# EAGLE library part СНП351-95РПр31-О-Б (library connectors)
РЮМК.430420.015 ТУ Соединитель (розетка) для печатного монтажа методом «пресс-фит» СНП351 предназначен для работы в электрических цепях постоянного, переменного и импульсного токов в радиоэлектронной аппаратуре специального и общепромышленного назначения. Технические условия ОТК: РЮМК.430420.046 ТУ Технические условия ВП: РЮМК.430420.015 ТУ Производитель: АО «Карачевский завод "Электродеталь" 242500 Брянская область, г. Карачев, ул. Горького, 1
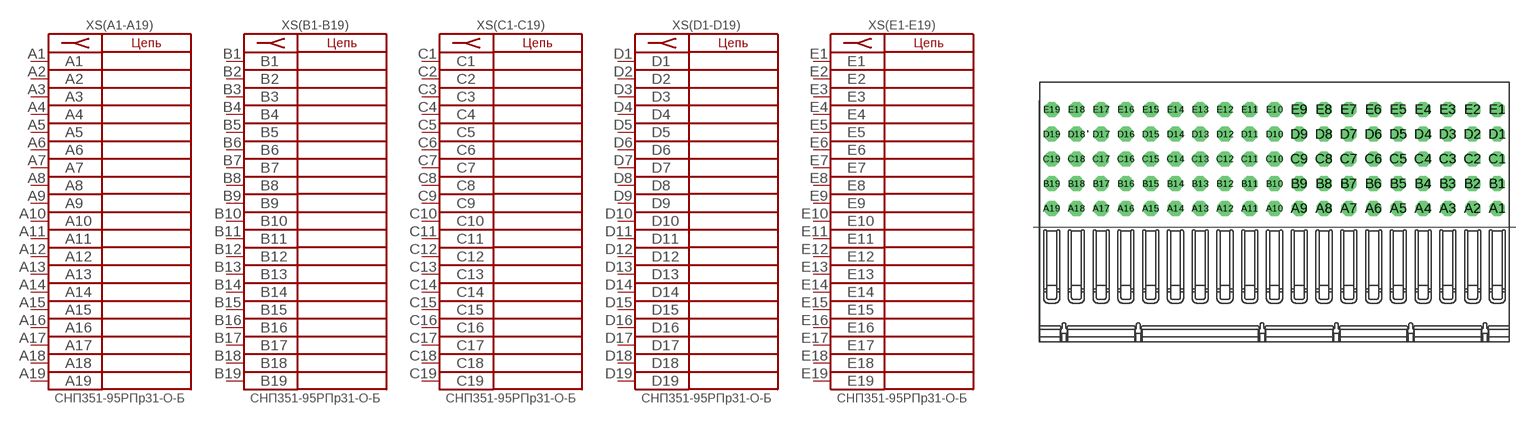
[diagram p9: symbol with the pads of СНП351-95РПр31-О-Б; footprint СНП351-95РПр31-О-Б]

Designator prefix XS; gates (A1-A19)=CONNECTOR_CPCI_A1_19(розетка) (B1-B19)=CONNECTOR_CPCI_B1_19(розетка) (C1-C19)=CONNECTOR_CPCI_C1_19(розетка) (D1-D19)=CONNECTOR_CPCI_D1_19(розетка) (E1-E19)=CONNECTOR_CPCI_E1_19(розетка)

## СНП351-95РПр31-О-Б  [СНП351-95РПр31-О-Б]
A1  (A1-A19):A1  pas
A2  (A1-A19):A2  pas
A3  (A1-A19):A3  pas
A4  (A1-A19):A4  pas
A5  (A1-A19):A5  pas
A6  (A1-A19):A6  pas
A7  (A1-A19):A7  pas
A8  (A1-A19):A8  pas
A9  (A1-A19):A9  pas
A10  (A1-A19):A10  pas
A11  (A1-A19):A11  pas
A12  (A1-A19):A12  pas
A13  (A1-A19):A13  pas
A14  (A1-A19):A14  pas
A15  (A1-A19):A15  pas
A16  (A1-A19):A16  pas
A17  (A1-A19):A17  pas
A18  (A1-A19):A18  pas
A19  (A1-A19):A19  pas
B1  (B1-B19):B1  pas
B2  (B1-B19):B2  pas
B3  (B1-B19):B3  pas
B4  (B1-B19):B4  pas
B5  (B1-B19):B5  pas
B6  (B1-B19):B6  pas
B7  (B1-B19):B7  pas
B8  (B1-B19):B8  pas
B9  (B1-B19):B9  pas
B10  (B1-B19):B10  pas
B11  (B1-B19):B11  pas
B12  (B1-B19):B12  pas
B13  (B1-B19):B13  pas
B14  (B1-B19):B14  pas
B15  (B1-B19):B15  pas
B16  (B1-B19):B16  pas
B17  (B1-B19):B17  pas
B18  (B1-B19):B18  pas
B19  (B1-B19):B19  pas
C1  (C1-C19):C1  pas
C2  (C1-C19):C2  pas
C3  (C1-C19):C3  pas
C4  (C1-C19):C4  pas
C5  (C1-C19):C5  pas
C6  (C1-C19):C6  pas
C7  (C1-C19):C7  pas
C8  (C1-C19):C8  pas
C9  (C1-C19):C9  pas
C10  (C1-C19):C10  pas
C11  (C1-C19):C11  pas
C12  (C1-C19):C12  pas
C13  (C1-C19):C13  pas
C14  (C1-C19):C14  pas
C15  (C1-C19):C15  pas
C16  (C1-C19):C16  pas
C17  (C1-C19):C17  pas
C18  (C1-C19):C18  pas
C19  (C1-C19):C19  pas
D1  (D1-D19):D1  pas
D2  (D1-D19):D2  pas
D3  (D1-D19):D3  pas
D4  (D1-D19):D4  pas
D5  (D1-D19):D5  pas
D6  (D1-D19):D6  pas
D7  (D1-D19):D7  pas
D8  (D1-D19):D8  pas
D9  (D1-D19):D9  pas
D10  (D1-D19):D10  pas
D11  (D1-D19):D11  pas
D12  (D1-D19):D12  pas
D13  (D1-D19):D13  pas
D14  (D1-D19):D14  pas
D15  (D1-D19):D15  pas
D16  (D1-D19):D16  pas
D17  (D1-D19):D17  pas
D18  (D1-D19):D18  pas
D19  (D1-D19):D19  pas
E1  (E1-E19):E1  pas
E2  (E1-E19):E2  pas
E3  (E1-E19):E3  pas
E4  (E1-E19):E4  pas
E5  (E1-E19):E5  pas
E6  (E1-E19):E6  pas
E7  (E1-E19):E7  pas
E8  (E1-E19):E8  pas
E9  (E1-E19):E9  pas
E10  (E1-E19):E10  pas
E11  (E1-E19):E11  pas
E12  (E1-E19):E12  pas
E13  (E1-E19):E13  pas
E14  (E1-E19):E14  pas
E15  (E1-E19):E15  pas
E16  (E1-E19):E16  pas
E17  (E1-E19):E17  pas
E18  (E1-E19):E18  pas
E19  (E1-E19):E19  pas

## Footprint СНП351-95РПр31-О-Б (pad centres in mm)
drill 0.7 pad 1.016 octagon: A1 18,0; A2 16,0; A3 14,0; A4 12,0; A5 10,0; A6 8,0; A7 6,0; A8 4,0; A9 2,0; A10 0,0; A11 -2,0; A12 -4,0; A13 -6,0; A14 -8,0; A15 -10,0; A16 -12,0; A17 -14,0; A18 -16,0; A19 -18,0; B1 18,2; B2 16,2; B3 14,2; B4 12,2; B5 10,2; B6 8,2; B7 6,2; B8 4,2; B9 2,2; B10 0,2; B11 -2,2; B12 -4,2; B13 -6,2; B14 -8,2; B15 -10,2; B16 -12,2; B17 -14,2; B18 -16,2; B19 -18,2; C1 18,4; C2 16,4; C3 14,4; C4 12,4; C5 10,4; C6 8,4; C7 6,4; C8 4,4; C9 2,4; C10 0,4; C11 -2,4; C12 -4,4; C13 -6,4; C14 -8,4; C15 -10,4; C16 -12,4; C17 -14,4; C18 -16,4; C19 -18,4; D1 18,6; D2 16,6; D3 14,6; D4 12,6; D5 10,6; D6 8,6; D7 6,6; D8 4,6; D9 2,6; D10 0,6; D11 -2,6; D12 -4,6; D13 -6,6; D14 -8,6; D15 -10,6; D16 -12,6; D17 -14,6; D18 -16,6; D19 -18,6; E1 18,8; E2 16,8; E3 14,8; E4 12,8; E5 10,8; E6 8,8; E7 6,8; E8 4,8; E9 2,8; E10 0,8; E11 -2,8; E12 -4,8; E13 -6,8; E14 -8,8; E15 -10,8; E16 -12,8; E17 -14,8; E18 -16,8; E19 -18,8